# Altium footprint library LTW-C191TLA.PcbLib: 1 footprints
Each footprint in its own frame and in the unit in brackets; x right, y up, seen from the top. Pads: shape width x height; smd on the part's side, far side on the other; paste and mask are expansions set on the pad; w line width, h text height; cw(c..) or ccw(c..) is an arc to the next point about the centre after c.
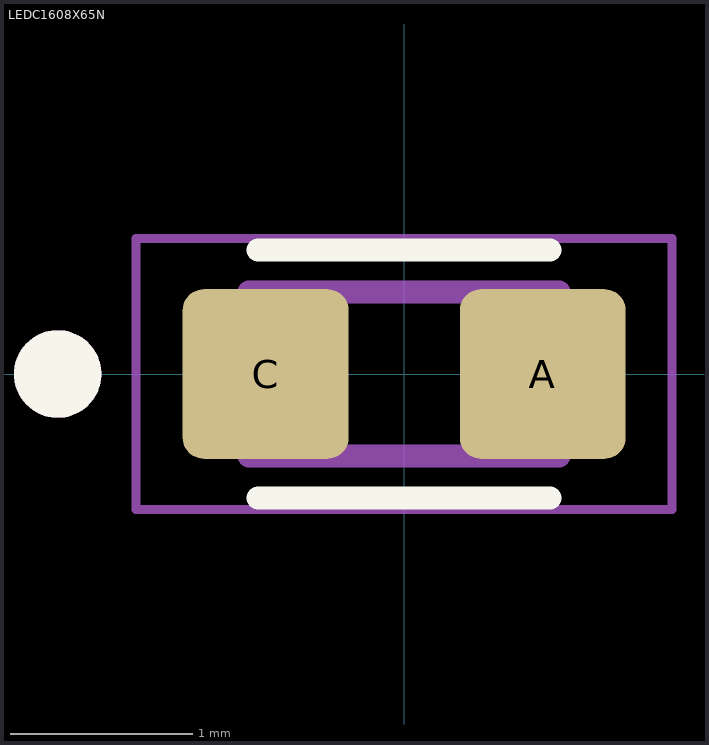
[diagram p0: the footprint, top view; thin cyan lines are the x and y axes]

## LEDC1608X65N [mm]
pads (2):
  rrect25% 0.91x0.93 smd: A(0.76,0) C(-0.76,0)
Top Overlay:
  circle w0.24: c-1.9,0 r0.12
  lines w0.127: -0.8,-0.68 0.8,-0.68 ; -0.8,0.68 0.8,0.68
Mechanical 13:
  circle w0.24: c-1.9,0 r0.12
  lines w0.127: -0.85,-0.45 -0.85,0.45 0.85,0.45 0.85,-0.45 -0.85,-0.45
Mechanical 15:
  lines w0.05: -1.47,-0.744 -1.47,0.744 1.47,0.744 1.47,-0.744 -1.47,-0.744
3D body "step_temp.STEP": height 0.65, standoff 0, extent -0.4,-0.8 0.4,0.8